# Altium schematic symbol library SCH - MCU - NUVOTON - NUVOTON M0519VE3AE.SchLib: 1 symbol
Pins are listed as number, name and electrical type; pins without a type are passive.

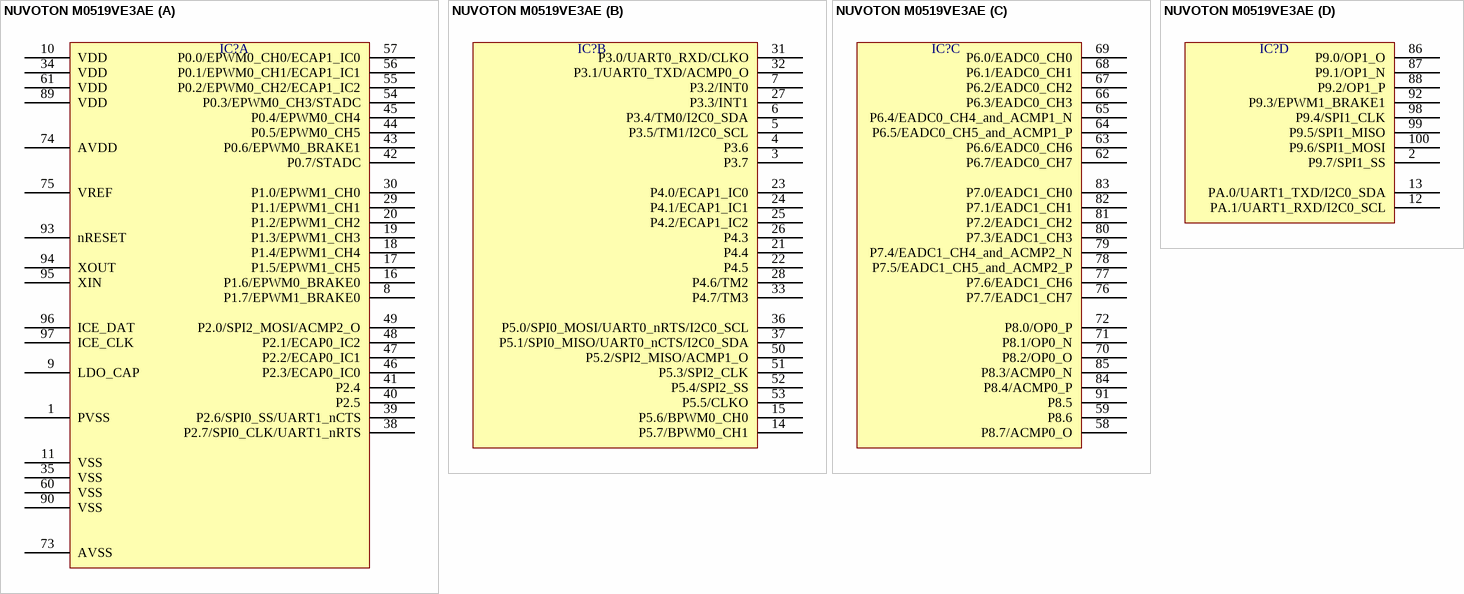
[diagram p0: symbol NUVOTON M0519VE3AE]

## NUVOTON M0519VE3AE
designator IC?  (value not drawn)
part A pins: 1 PVSS, 8 P1.7/EPWM1_BRAKE0, 9 LDO_CAP, 10 VDD, 11 VSS, 16 P1.6/EPWM0_BRAKE0, 17 P1.5/EPWM1_CH5, 18 P1.4/EPWM1_CH4, 19 P1.3/EPWM1_CH3, 20 P1.2/EPWM1_CH2, 29 P1.1/EPWM1_CH1, 30 P1.0/EPWM1_CH0, 34 VDD, 35 VSS, 38 P2.7/SPI0_CLK/UART1_nRTS, 39 P2.6/SPI0_SS/UART1_nCTS, 40 P2.5, 41 P2.4, 42 P0.7/STADC, 43 P0.6/EPWM0_BRAKE1, 44 P0.5/EPWM0_CH5, 45 P0.4/EPWM0_CH4, 46 P2.3/ECAP0_IC0, 47 P2.2/ECAP0_IC1, 48 P2.1/ECAP0_IC2, 49 P2.0/SPI2_MOSI/ACMP2_O, 54 P0.3/EPWM0_CH3/STADC, 55 P0.2/EPWM0_CH2/ECAP1_IC2, 56 P0.1/EPWM0_CH1/ECAP1_IC1, 57 P0.0/EPWM0_CH0/ECAP1_IC0, 60 VSS, 61 VDD, 73 AVSS, 74 AVDD, 75 VREF, 89 VDD, 90 VSS, 93 nRESET, 94 XOUT, 95 XIN, 96 ICE_DAT, 97 ICE_CLK
part B pins: 3 P3.7, 4 P3.6, 5 P3.5/TM1/I2C0_SCL, 6 P3.4/TM0/I2C0_SDA, 7 P3.2/INT0, 14 P5.7/BPWM0_CH1, 15 P5.6/BPWM0_CH0, 21 P4.4, 22 P4.5, 23 P4.0/ECAP1_IC0, 24 P4.1/ECAP1_IC1, 25 P4.2/ECAP1_IC2, 26 P4.3, 27 P3.3/INT1, 28 P4.6/TM2, 31 P3.0/UART0_RXD/CLKO, 32 P3.1/UART0_TXD/ACMP0_O, 33 P4.7/TM3, 36 P5.0/SPI0_MOSI/UART0_nRTS/I2C0_SCL, 37 P5.1/SPI0_MISO/UART0_nCTS/I2C0_SDA, 50 P5.2/SPI2_MISO/ACMP1_O, 51 P5.3/SPI2_CLK, 52 P5.4/SPI2_SS, 53 P5.5/CLKO
part C pins: 58 P8.7/ACMP0_O, 59 P8.6, 62 P6.7/EADC0_CH7, 63 P6.6/EADC0_CH6, 64 P6.5/EADC0_CH5_and_ACMP1_P, 65 P6.4/EADC0_CH4_and_ACMP1_N, 66 P6.3/EADC0_CH3, 67 P6.2/EADC0_CH2, 68 P6.1/EADC0_CH1, 69 P6.0/EADC0_CH0, 70 P8.2/OP0_O, 71 P8.1/OP0_N, 72 P8.0/OP0_P, 76 P7.7/EADC1_CH7, 77 P7.6/EADC1_CH6, 78 P7.5/EADC1_CH5_and_ACMP2_P, 79 P7.4/EADC1_CH4_and_ACMP2_N, 80 P7.3/EADC1_CH3, 81 P7.2/EADC1_CH2, 82 P7.1/EADC1_CH1, 83 P7.0/EADC1_CH0, 84 P8.4/ACMP0_P, 85 P8.3/ACMP0_N, 91 P8.5
part D pins: 2 P9.7/SPI1_SS, 12 PA.1/UART1_RXD/I2C0_SCL, 13 PA.0/UART1_TXD/I2C0_SDA, 86 P9.0/OP1_O, 87 P9.1/OP1_N, 88 P9.2/OP1_P, 92 P9.3/EPWM1_BRAKE1, 98 P9.4/SPI1_CLK, 99 P9.5/SPI1_MISO, 100 P9.6/SPI1_MOSI